# Altium schematic symbol library USB-C_Power_Supply.SCHLIB: 19 symbols
Pins are listed as number, name and electrical type; pins without a type are passive.

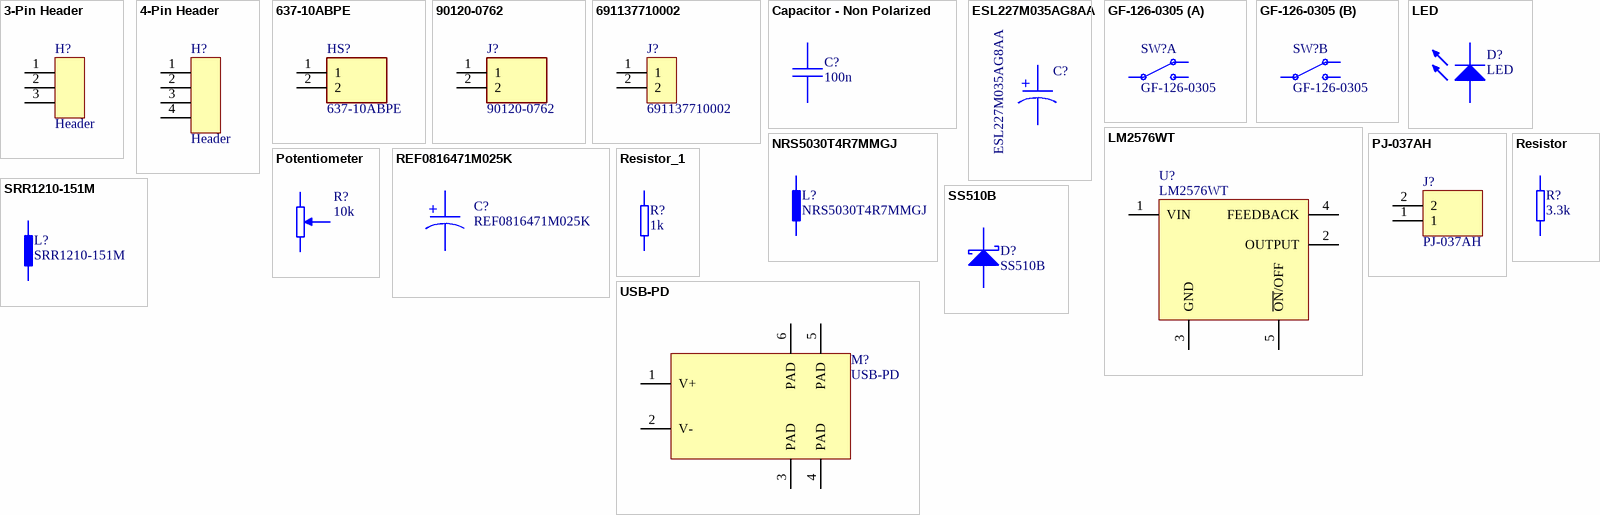
[diagram p0: symbols 3-Pin Header to USB-PD]

## 3-Pin Header
designator H?, comment Header
3-Pin Header
footprint Header_1X3
pins: 1, 2, 3

## 4-Pin Header
designator H?, comment Header
4-Pin Header
footprint Header_1X4
footprint Header_1X4
footprint Header_1X4
pins: 1, 2, 3, 4

## 637-10ABPE
designator HS?
Undefined or Miscellaneous; Manufacturer_Name: Wakefield Thermal; Datasheet Link: https://media.digikey.com/pdf/Data%20Sheets/Wakefield%20Thermal%20PDFs/634%20Heat%20Sinks.pdf; Height: 25.4mm; Manufacturer_Part_Number: 637-10ABPE; Mouser Part Number: 567-637-10ABPE; Mouser Price/Stock: https://www.mouser.co.uk/ProductDetail/Wakefield-Vette/637-10ABPE?qs=1%252ByrAFyf4wFy1bU0h8s7wA%3D%3D
footprint 63710ABPE
pins: 1, 2

## 90120-0762
designator J?
Connector; Manufacturer_Name: Molex; Datasheet Link: http://www.molex.com/pdm_docs/sd/901200762_sd.pdf; Height: 5.6mm; Manufacturer_Part_Number: 90120-0762; Mouser Part Number: 538-90120-0762; Mouser Price/Stock: https://www.mouser.co.uk/ProductDetail/Molex/90120-0762?qs=NKHyz0HolODkarWFh2VFww%3D%3D; Arrow Part Number: 90120-0762; Arrow Price/Stock: https://www.arrow.com/en/products/90120-0762/molex?region=nac
footprint Header_1X2
pins: 1, 2

## 691137710002
designator J?
Connector; Manufacturer_Name: Wurth Elektronik; Datasheet Link: https://katalog.we-online.com/em/datasheet/691137710002.pdf; Height: 11.6mm; Manufacturer_Part_Number: 691137710002; Mouser Part Number: 710-691137710002; Mouser Price/Stock: https://www.mouser.co.uk/ProductDetail/Wurth-Elektronik/691137710002?qs=lBTPRtX1sU9LnHBbviNKGA%3D%3D
footprint SHDR2W70P0X500_1X2_1000X750X1160P
pins: 1, 2

## Capacitor - Non Polarized
designator C?, comment 100n
Non Polarized Capacitor
footprint CAP0805 (Chip Capacitor, 2-Leads, Body 2.00x1.20mm, IPC Medium Density)
pins: 1, 2

## ESL227M035AG8AA
designator C?
Capacitor Polarised; Manufacturer_Name: KEMET; Datasheet Link: https://content.kemet.com/datasheets/KEM_A4074_ESL.pdf; Height: 18mm; Manufacturer_Part_Number: ESL227M035AG8AA; Mouser Part Number: 80-ESL227M035AG8AA; Mouser Price/Stock: https://www.mouser.co.uk/ProductDetail/KEMET/ESL227M035AG8AA?qs=HXFqYaX1Q2yHN7oCVXkyWQ%3D%3D
footprint CAPTH8.00X18.00-3.50
pins: 1, 2
text: +

## GF-126-0305
designator SW?
DPDT Slide Switch
footprint GF1260305
part A pins: 1, 2, 3
part B pins: 4, 5, 6

## LED
designator D?
General Purpose LED; ComponentLink1Description: Datasheet; ComponentLink1URL: https://www.smc-diodes.com/propdf/1N4148W%20N0571%20REV.E.pdf
footprint LEDM2012X80N
footprint LEDM2012X80N
pins: 1 K, 2 A

## LM2576WT
designator U?
Integrated Circuit; Manufacturer_Name: Microchip; Manufacturer_Part_Number: LM2576WU-TR; Datasheet Link: http://ww1.microchip.com/downloads/en/DeviceDoc/lm2576.pdf; Mouser Part Number: 998-LM2576WT; Mouser Price/Stock: https://www.mouser.co.uk/ProductDetail/Microchip-Technology/LM2576-5.0WU-TR?qs=Y3Q3JoKAO1SBuj%2FVzZkeQA%3D%3D; Arrow Part Number: LM2576-5.0WU-TR; Arrow Price/Stock: https://www.arrow.com/en/products/lm2576-5.0wu-tr/microchip-technology?region=nac
footprint TO-220-5
pins: 1 VIN, 2 OUTPUT, 3 GND, 4 FEEDBACK, 5 ~{ON}/OFF

## NRS5030T4R7MMGJ
designator L?
Inductor; Manufacturer_Name: TAIYO YUDEN; Datasheet Link: https://www.yuden.co.jp/productdata/catalog/wound04_e.pdf; Height: 3.1mm; Manufacturer_Part_Number: NRS5030T4R7MMGJ; Mouser Part Number: 963-NRS5030T4R7MMGJ; Mouser Price/Stock: https://www.mouser.co.uk/ProductDetail/TAIYO-YUDEN/NRS5030T4R7MMGJ?qs=CNQs48zzdnpF%252BjDsFjbDtA%3D%3D; Arrow Part Number: NRS5030T4R7MMGJ; Arrow Price/Stock: null?utm_currency=USD&region=nac
footprint IND (4.9mmx4.9mm)
pins: 1, 2

## PJ-037AH
designator J?
Connector; Manufacturer_Name: Same Sky; Datasheet Link: https://www.arrow.com/en/products/pj-037ah/cui-devices; Height: 11.2mm; Manufacturer_Part_Number: PJ-037AH; Mouser Part Number: 490-PJ-037AH; Mouser Price/Stock: https://www.mouser.co.uk/ProductDetail/CUI-Devices/PJ-037AH?qs=WyjlAZoYn50M7m1AkzfPaQ%3D%3D; Arrow Part Number: PJ-037AH; Arrow Price/Stock: https://www.arrow.com/en/products/pj-037ah/cui-devices?region=nac
footprint PJ037AH
pins: 1, 2

## Potentiometer
designator R?, comment 10k
Potentionmeter
footprint 3339P1103LF - Modified
pins: 1, 2, 3

## REF0816471M025K
designator C?
Capacitor Polarised; Manufacturer_Name: Kyocera AVX; Datasheet Link: https://www.digikey.ph/en/products/detail/kyocera-avx/REF0816471M025K/20096764?msockid=39f1ec84d77b6f4428b7f904d6676eed; Height: 18mm; Manufacturer_Part_Number: REF0816471M025K; Mouser Part Number: 581-REF0816471M025K; Mouser Price/Stock: https://www.mouser.co.uk/ProductDetail/KYOCERA-AVX/REF0816471M025K?qs=Y0Uzf4wQF3mKMY7CWvU3GA%3D%3D
footprint CAPTH8.00X16.00-3.50
pins: 1, 2
text: +

## Resistor
designator R?, comment 3.3k
Resistor
footprint RESC0805 (Chip Resistor, 2-Leads, Body 2.00x1.20mm, IPC Medium Density)
pins: 1, 2

## Resistor_1
designator R?, comment 1k
Resistor
footprint RESC0805 (Chip Resistor, 2-Leads, Body 2.00x1.20mm, IPC Medium Density)
pins: 1, 2

## SRR1210-151M
designator L?
Inductor; Manufacturer_Name: Bourns; Datasheet Link: https://www.bourns.com/docs/Product-Datasheets/SRR1210.pdf; Height: 10mm; Manufacturer_Part_Number: SRR1210-151M; Mouser Part Number: 652-SRR1210-151M; Mouser Price/Stock: https://www.mouser.co.uk/ProductDetail/Bourns/SRR1210-151M?qs=4vvWAaIu%2Fq7S1x5W5meWRQ%3D%3D; Arrow Part Number: SRR1210-151M; Arrow Price/Stock: https://www.arrow.com/en/products/srr1210-151m/bourns?region=nac
footprint INDPM120120X1000N-D
pins: 1, 2

## SS510B
designator D?
Diode; Manufacturer_Name: HY Electronic; Height: 2.44mm; Manufacturer_Part_Number: SS510B
footprint DO-214AC (SMA)
pins: 1 K, 2 A

## USB-PD
designator M?
footprint USB_C-PD
pins: 1 V+, 2 V-, 3 PAD, 4 PAD, 5 PAD, 6 PAD